# Altium footprint library TjsADLib.PcbLib: 50 footprints (part 1 of 4)
Each footprint in its own frame and in the unit in brackets; x right, y up, seen from the top. Pads: shape width x height; smd on the part's side, far side on the other; paste and mask are expansions set on the pad; w line width, h text height; cw(c..) or ccw(c..) is an arc to the next point about the centre after c.
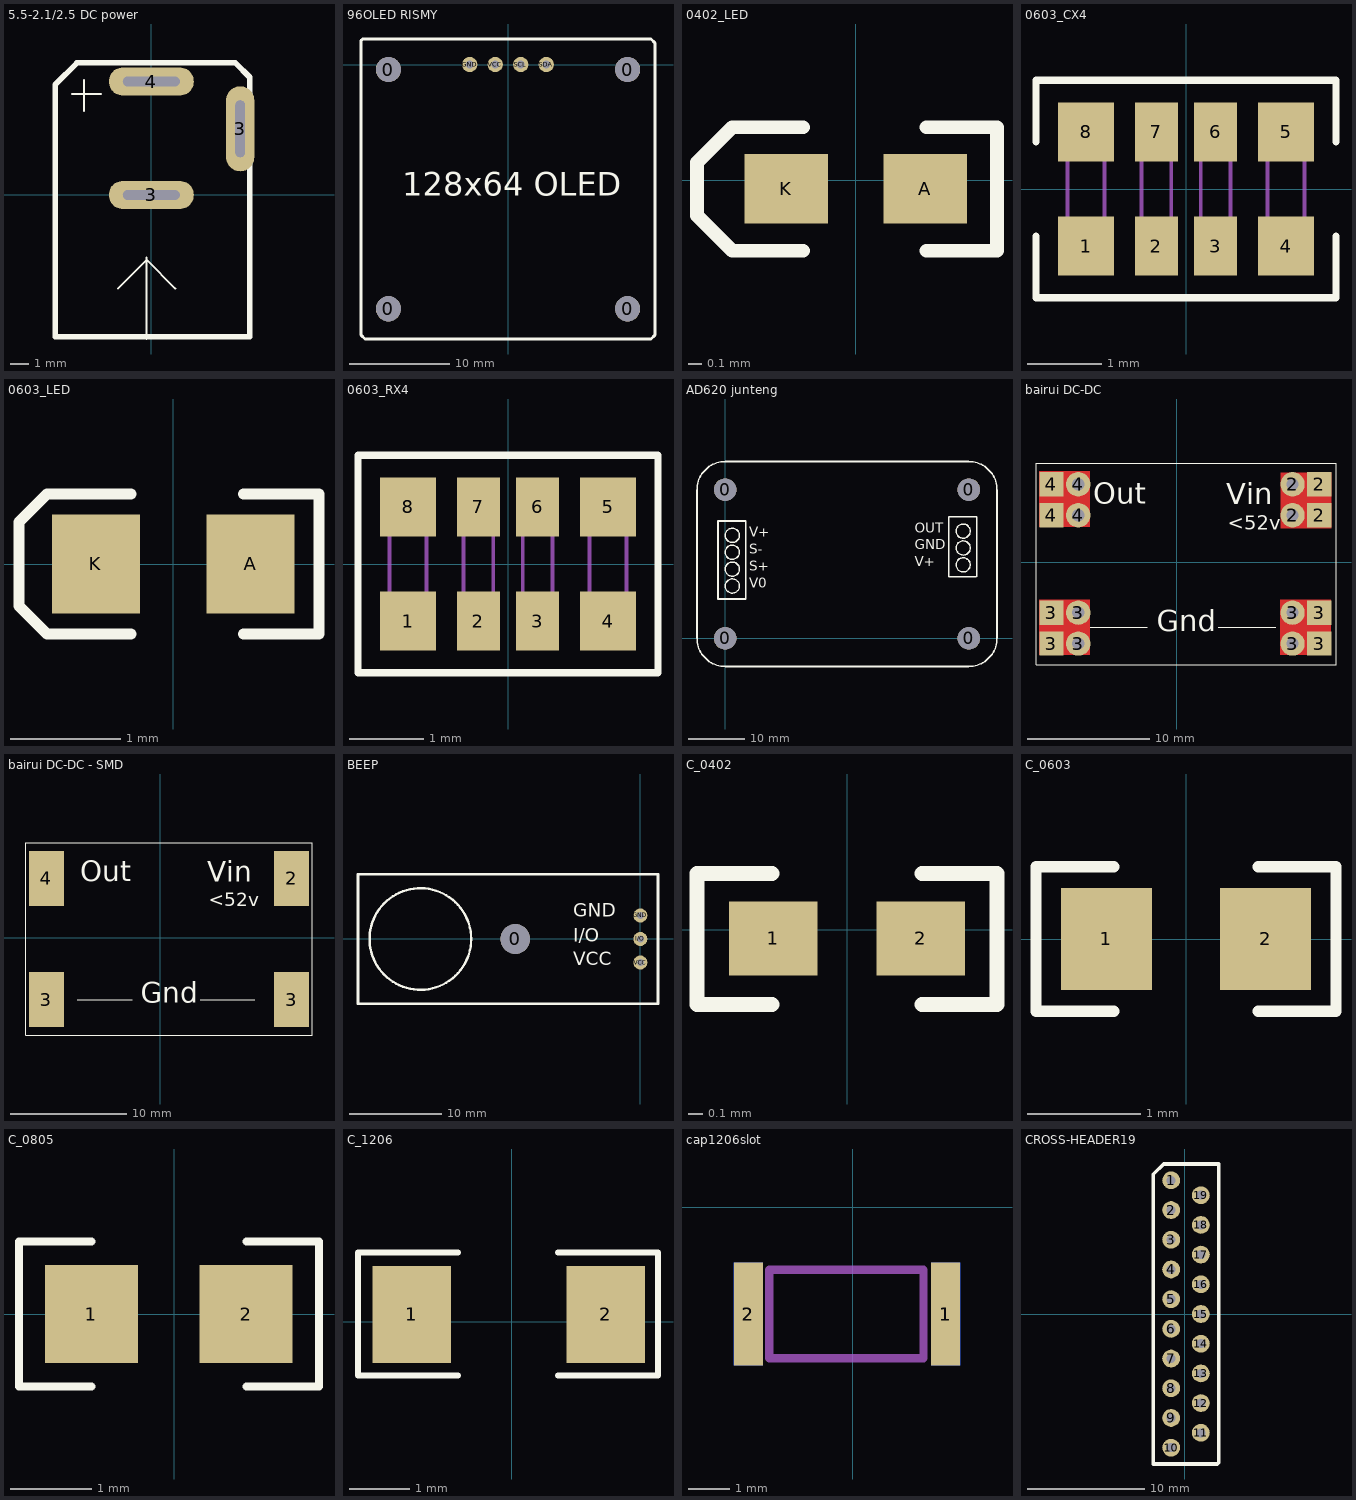
[diagram p0: the footprints below, top view; thin cyan lines are the x and y axes]

## 5.5-2.1/2.5 DC power [mm]
pads (3):
  oval 4.5x1.5 hole 0.5 slot 3 at 0 deg: 3(0,0) 4(0,6)
  oval 1.5x4.5 hole 0.5 slot 3 at 90 deg: 3(4.7,3.5)
Top Overlay:
  lines w0.1: -4.191,5.334 -2.667,5.334 ; -3.556,4.445 -3.556,6.096 ; -1.778,-4.953 -0.254,-3.429 ; -0.254,-7.62 -0.254,-3.302 -0.254,-3.429 ; 1.27,-4.953 -0.254,-3.429
  lines w0.3: -5.08,-7.493 -5.08,5.842 -3.937,6.985 4.445,6.985 5.207,6.223 5.207,-7.493 -5.08,-7.493

## 96OLED RISMY [mm]
pads (8):
  round 2.5 hole 2.5: 0(-11.9,-24.3) 0(-11.9,-0.5) 0(11.9,-24.3) 0(11.9,-0.5)
  round 1.524 hole 0.762: GND(-3.81,0) SCL(1.27,0) SDA(3.81,0) VCC(-1.27,0)
Top Overlay:
  lines w0.3: -14.605,-26.924 -14.605,-25.908 -14.605,1.905 -14.605,2.413 -14.478,2.54 14.224,2.54 14.605,2.159 14.605,-26.924 14.224,-27.305 -14.224,-27.305 -14.605,-26.924
  text "128x64 OLED" at -10.541,-13.843 h4

## 0402_LED [mm]
pads (2):
  rect 0.6x0.5 smd: A(0.5,-0.06) K(-0.5,-0.06)
Top Overlay:
  lines w0.1: -0.381,-0.508 -0.889,-0.508 -1.143,-0.254 -1.143,0.127 -0.889,0.381 -0.381,0.381 ; 0.508,-0.508 1.016,-0.508 1.016,0.381 0.508,0.381

## 0603_CX4 [mm]
pads (8):
  rect 0.75x0.8 smd mask+0.051: 1(-1.35,-0.77) 4(1.35,-0.77) 5(1.35,0.77) 8(-1.35,0.77)
  rect 0.58x0.8 smd mask+0.051: 2(-0.4,-0.77) 3(0.4,-0.77) 6(0.4,0.77) 7(-0.4,0.77)
Top Overlay:
  lines w0.1: -2.025,-0.635 -2.025,-1.47 2.025,-1.47 2.025,-0.635 ; -2.025,0.635 -2.025,1.47 2.025,1.47 2.025,0.635
Mechanical 13:
  lines w0.05: -1.6,-0.8 -1.6,0.8 -1.1,0.8 -1.1,-0.8 -1.6,-0.8 ; -0.6,-0.8 -0.6,0.8 -0.2,0.8 -0.2,-0.8 -0.6,-0.8 ; 0.2,-0.8 0.2,0.8 0.6,0.8 0.6,-0.8 0.2,-0.8 ; 1.1,-0.8 1.1,0.8 1.6,0.8 1.6,-0.8 1.1,-0.8
3D body: height 0.55, standoff 0, extent -1.6,-0.8 1.6,0.8

## 0603_LED [mm]
pads (2):
  rect 0.8x0.9 smd: A(0.7,0) K(-0.7,0)
Top Overlay:
  lines w0.1: -0.381,-0.635 -1.143,-0.635 -1.397,-0.381 -1.397,0.381 -1.143,0.635 -0.381,0.635 ; 0.635,-0.635 1.32,-0.635 1.32,0.635 0.635,0.635

## 0603_RX4 [mm]
pads (8):
  rect 0.75x0.8 smd mask+0.051: 1(-1.35,-0.77) 4(1.35,-0.77) 5(1.35,0.77) 8(-1.35,0.77)
  rect 0.58x0.8 smd mask+0.051: 2(-0.4,-0.77) 3(0.4,-0.77) 6(0.4,0.77) 7(-0.4,0.77)
Top Overlay:
  lines w0.1: -2.025,-1.47 2.025,-1.47 2.025,1.47 -2.025,1.47 -2.025,-1.47
Mechanical 13:
  lines w0.05: -1.6,-0.8 -1.6,0.8 -1.1,0.8 -1.1,-0.8 -1.6,-0.8 ; -0.6,-0.8 -0.6,0.8 -0.2,0.8 -0.2,-0.8 -0.6,-0.8 ; 0.2,-0.8 0.2,0.8 0.6,0.8 0.6,-0.8 0.2,-0.8 ; 1.1,-0.8 1.1,0.8 1.6,0.8 1.6,-0.8 1.1,-0.8
3D body: height 0.55, standoff 0, extent -1.6,-0.8 1.6,0.8

## AD620 junteng [mm]
pads (4):
  round 4 hole 4: 0(0,0) 0(0,26.4) 0(43.3,0) 0(43.3,26.4)
Top Overlay:
  circle w0.254: c1.27,18.288 r1.257
  circle w0.254: c1.27,15.288 r1.257
  circle w0.254: c1.27,12.288 r1.257
  circle w0.254: c1.27,9.288 r1.257
  circle w0.254: c42.291,13.05 r1.257
  circle w0.254: c42.291,16.05 r1.257
  circle w0.254: c42.291,19.05 r1.257
  lines w0.254: -5,0 ccw(c0,0) 0,-5 ; -5,26.4 cw(c0,26.4) 0,31.4 ; 43.3,-5 ccw(c43.3,0) 48.3,0 ; 43.3,31.4 cw(c43.3,26.4) 48.3,26.4
  lines w0.3: -5,0 -5,26.4 ; 0,-5 43.3,-5 ; 0,31.4 43.3,31.4 ; 48.3,0 48.3,26.4 ; -1.27,6.985 3.683,6.985 3.683,20.828 -1.27,20.828 -1.27,6.985 ; 39.751,10.922 39.751,21.59 44.704,21.59 44.704,11.049 44.577,10.922 39.751,10.922
  text "V+" at 4.318,17.399 h3
  text "S-" at 4.318,14.399 h3
  text "S+" at 4.318,11.399 h3
  text "V0" at 4.318,8.399 h3
  text "V+" at 33.655,12.161 h3
  text "GND" at 33.655,15.161 h3
  text "OUT" at 33.655,18.161 h3

## bairui DC-DC [mm]
pads (16):
  round 2 hole 1: 2(9.513,3.878) 2(9.513,6.418) 3(-8.087,-6.662) 3(-8.087,-4.122) 3(9.513,-6.662) 3(9.513,-4.122) 4(-8.087,3.878) 4(-8.087,6.418)
  rect 2x2 smd: 2(11.713,3.878) 2(11.713,6.418) 3(-10.287,-6.662) 3(-10.287,-4.122) 3(11.713,-6.662) 3(11.713,-4.122) 4(-10.287,3.878) 4(-10.287,6.418)
Top Layer:
  rectangle: -11.303,2.921 -7.112,7.493
  rectangle: -11.303,-7.619 -7.112,-3.047
  rectangle: 8.497,-7.619 12.688,-3.047
  region: 12.729,7.375 8.538,7.375 8.538,2.803 12.729,2.803
Top Overlay:
  lines w0.1: -7.112,-5.334 -2.413,-5.334 ; 3.429,-5.334 8.128,-5.334 ; -11.557,-8.382 13.081,-8.382 13.081,8.128 11.713,8.128 -11.557,8.128 -11.557,-8.382
  text "Vin" at 4.064,4.191 h3
  text "Out" at -6.858,4.238 h3
  text "Gnd" at -1.651,-6.223 h3
  text "<52v" at 4.191,2.286 h2

## bairui DC-DC - SMD [mm]
pads (4):
  rect 3x4.7 smd: 2(11.303,5.08) 3(-9.779,-5.334) 3(11.303,-5.334) 4(-9.779,5.08)
Top Overlay:
  lines w0.1: -7.112,-5.334 -2.413,-5.334 ; 3.429,-5.334 8.128,-5.334 ; -11.557,-8.382 13.081,-8.382 13.081,8.128 11.713,8.128 -11.557,8.128 -11.557,-8.382
  text "Vin" at 4.064,4.191 h3
  text "Out" at -6.858,4.238 h3
  text "Gnd" at -1.651,-6.223 h3
  text "<52v" at 4.191,2.286 h2

## BEEP [mil]
pads (4):
  round 125.98 hole 125.98: 0(-531.5,0)
  round 60 hole 30: GND(0,100) I/O(0,0) VCC(0,-100)
Top Overlay:
  circle w10: c-935,0 r215.93
  lines w11.81: -1200,-275.59 -1200,275.59 75,275.59 75,-275.59 -1200,-275.59
  text "VCC" at -285,-130 h98.43
  text "I/O" at -285,-30 h98.43
  text "GND" at -285,75 h98.43

## C_0402 [mm]
pads (2):
  rect 0.6x0.5 smd: 1(-0.5,-0.06) 2(0.5,-0.06)
Top Overlay:
  lines w0.1: -0.508,-0.508 -1.016,-0.508 -1.016,0.381 -0.508,0.381 ; 0.508,-0.508 1.016,-0.508 1.016,0.381 0.508,0.381

## C_0603 [mm]
pads (2):
  rect 0.8x0.9 smd: 1(-0.7,0) 2(0.7,0)
Top Overlay:
  lines w0.1: -0.635,-0.635 -1.32,-0.635 -1.32,0.635 -0.635,0.635 ; 0.635,-0.635 1.32,-0.635 1.32,0.635 0.635,0.635

## C_0805 [mm]
pads (2):
  rect 1.14x1.2 smd: 1(-1.016,0) 2(0.884,0)
Top Overlay:
  lines w0.1: -1.016,-0.889 -1.905,-0.889 -1.905,0.889 -1.016,0.889 ; 0.889,-0.889 1.778,-0.889 1.778,0.889 0.889,0.889

## C_1206 [mm]
pads (2):
  rect 1.3x1.6 smd: 1(-1.651,0.12) 2(1.549,0.12)
Top Overlay:
  lines w0.1: -0.889,-0.889 -2.54,-0.889 -2.54,1.143 -0.889,1.143 ; 0.762,-0.889 2.413,-0.889 2.413,1.143 0.762,1.143

## cap1206slot [mm]
pads (4):
  rect 0.7x2.5 smd: 1(2.259,-2.599) 2(-2.54,-2.599)
  rect 0.7x2.5 smd far side: 1(2.259,-2.599) 2(-2.54,-2.599)
Mechanical 1:
  lines w0.2: -2.032,-3.674 1.718,-3.674 1.718,-1.524 -2.032,-1.524 -2.032,-3.674

## CROSS-HEADER19 [mil]
pads (19):
  round 60 hole 30: 1(-45,450) 2(-45,350) 3(-45,250) 4(-45,150) 5(-45,50) 6(-45,-50) 7(-45,-150) 8(-45,-250) 9(-45,-350) 10(-45,-450) 11(55,-400) 12(55,-300) 13(55,-200) 14(55,-100) 15(55,0) 16(55,100) 17(55,200) 18(55,300) 19(55,400)
Top Overlay:
  lines w11.81: 115,-455 115,-310 115,505 -70,505 -105,470 -105,-505 110,-505 115,-500 115,-450